# Altium footprint library Inductors-transformers.PcbLib: 104 footprints (part 7 of 7)
Each footprint in its own frame and in the unit in brackets; x right, y up, seen from the top. Pads: shape width x height; smd on the part's side, far side on the other; paste and mask are expansions set on the pad; w line width, h text height; cw(c..) or ccw(c..) is an arc to the next point about the centre after c.
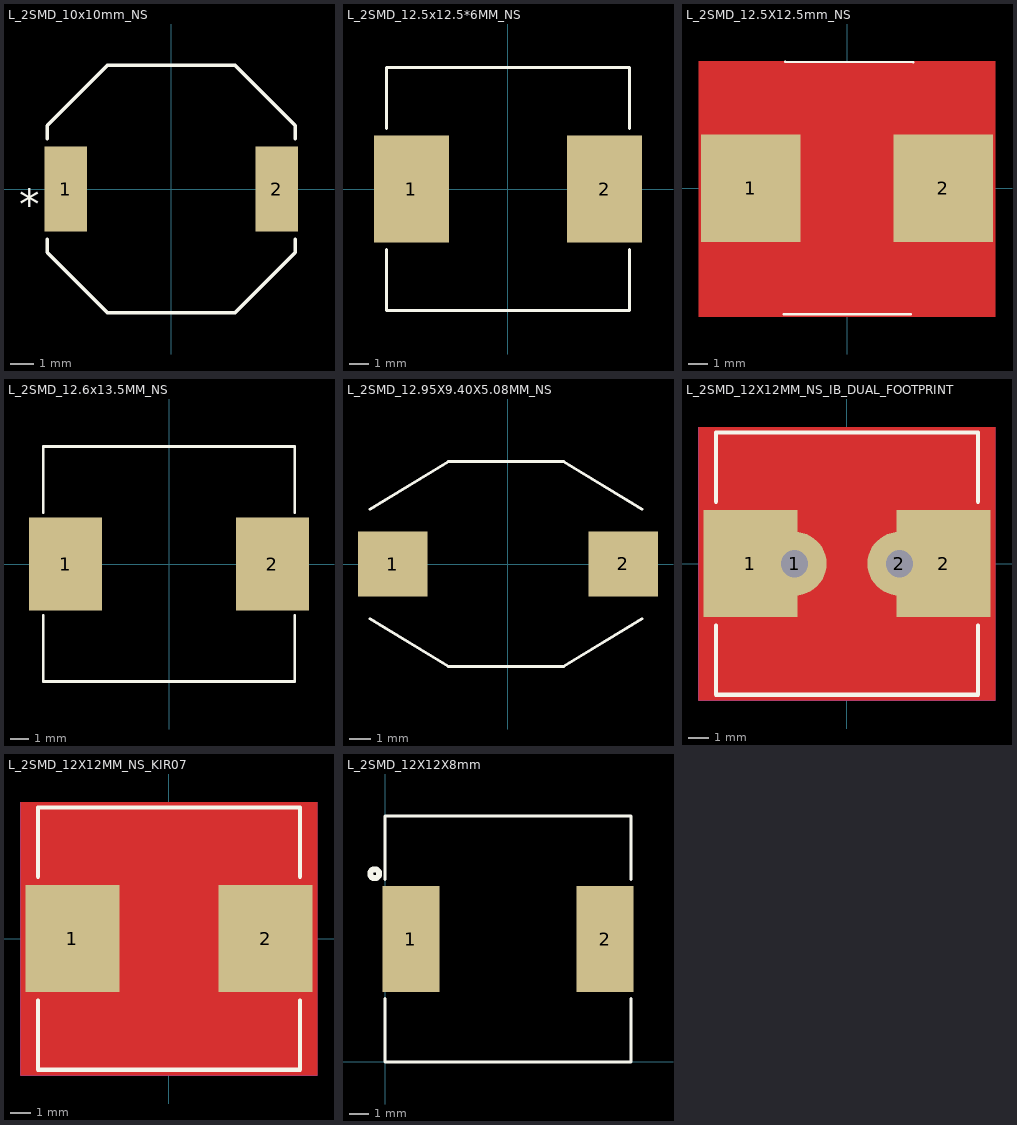
[diagram p6: the footprints below, top view; thin cyan lines are the x and y axes]

## L_2SMD_10x10mm_NS [mil] "NonStandard / 20230426/ A-F. Romo"
pads (2):
  rect 71x142 smd: 1(-177,0) 2(177,0)
Top Overlay:
  lines w6: -208,-84.1 -208,-106.5 -106.5,-208 106.5,-208 208,-106.5 208,-84.1 ; -208,84.1 -208,106.5 -106.5,208 106.5,208 208,106.5 208,84.1
  text "*" at -255.5,-50 h50
3D body "sru1048.stp": height 188.98, standoff 0, extent -196.84,-196.84 196.86,196.86

## L_2SMD_12.5x12.5*6MM_NS [mm] "/20220425/V-A.Patino"
pads (2):
  rect 3.85x5.5 smd: 1(-4.975,0) 2(4.975,0)
Top Overlay:
  lines w0.152: -6.25,-3.109 -6.25,-6.25 6.25,-6.25 6.25,-3.109 ; -6.25,3.109 -6.25,6.25 6.25,6.25 6.25,3.109
3D body "DR125-6R8-R.stp": height 6, standoff 0, extent -6.25,-6.25 6.25,6.25

## L_2SMD_12.5X12.5mm_NS [mm] "NonStandard/ 20190226 / C-A.Serna.A"
height 8
pads (2):
  rect 5x5.4 smd: 1(-4.85,0) 2(4.85,0)
Top Layer:
  pour cut-out: -7.46,6.378 7.453,6.378 7.453,-6.468 -7.46,-6.468
Top Overlay:
  lines w0.127: -3.176,-6.358 3.196,-6.341 ; -3.108,6.363 3.332,6.346
3D body "IND_BOURNS_SRR1280.stp": height 8.1, standoff 0.1, extent -6.37,-6.429 6.432,6.377

## L_2SMD_12.6x13.5MM_NS [mm] "/20220422/V-A.Patino"
pads (2):
  rect 3.9x5 smd: 1(-5.55,0) 2(5.55,0)
Top Overlay:
  lines w0.152: -6.75,-2.757 -6.75,-6.3 6.75,-6.3 6.75,-2.757 ; -6.75,2.757 -6.75,6.3 6.75,6.3 6.75,2.757
3D body "SRP1265C-330M.stp": height 6.5, standoff 0, extent -6.75,-6.3 6.75,6.3

## L_2SMD_12.95X9.40X5.08MM_NS [mm] "20230220/ N-A.Potosi"
pads (2):
  rect 3.2x3 smd: 1(-5.285,0) 2(5.285,0)
Top Overlay:
  lines w0.127: -6.335,-2.509 -2.738,-4.699 2.554,-4.699 6.151,-2.509 ; -6.335,2.509 -2.738,4.699 2.554,4.699 6.151,2.509
3D body "b82476_a1.step": height 4.81, standoff 0.01, extent -6.342,-4.646 6.158,4.654

## L_2SMD_12X12MM_NS_IB_DUAL_FOOTPRINT [mm] "NonStandard/ 20200310/ V-A.Patino"
height 8
pads (4):
  rect 4.5x5.1 smd: 1(-4.6,0) 2(4.6,0)
  round 3.048 hole 1.3: 1(-2.5,0) 2(2.5,0)
Top Layer:
  pour cut-out: -7.075,6.5 7.075,6.5 7.075,-6.5 -7.075,-6.53
Top Overlay:
  lines w0.2: -6.25,-2.95 -6.25,-6.25 6.25,-6.25 6.25,-2.95 ; -6.25,2.95 -6.25,6.25 6.25,6.25 6.25,2.95
Mechanical 1:
  lines w0.1: -6.25,-6.25 6.25,-6.25 6.25,6.25 -6.25,6.25 -6.25,-6.25
Mechanical 15:
  lines w0.05: -7.075,-6.5 -7.075,6.5 7.075,6.5 7.075,-6.5 -7.075,-6.5
  lines w0.1: -0.5,0 0.5,0 ; 0,-0.5 0,0.5
3D body: height 8, standoff 0, extent -6.25,-6.25 6.25,6.25

## L_2SMD_12X12MM_NS_KIR07 [mm] "NonStandard/ 20191014/ C-A.Serna.A"
height 8
pads (2):
  rect 4.5x5.1 smd: 1(-4.6,0) 2(4.6,0)
Top Layer:
  pour cut-out: -7.075,6.5 7.075,6.5 7.075,-6.5 -7.075,-6.53
Top Overlay:
  lines w0.2: -6.25,-2.95 -6.25,-6.25 6.25,-6.25 6.25,-2.95 ; -6.25,2.95 -6.25,6.25 6.25,6.25 6.25,2.95
Mechanical 1:
  lines w0.1: -6.25,-6.25 6.25,-6.25 6.25,6.25 -6.25,6.25 -6.25,-6.25
Mechanical 15:
  lines w0.05: -7.075,-6.5 -7.075,6.5 7.075,6.5 7.075,-6.5 -7.075,-6.5
  lines w0.1: -0.5,0 0.5,0 ; 0,-0.5 0,0.5
3D body: height 8, standoff 0, extent -6.25,-6.25 6.25,6.25

## L_2SMD_12X12X8mm [mil] "/ 20231112 / J.Jaramillo"
pads (2):
  rect 114x213 smd paste+0 mask+0: 1(52,247) 2(442,247)
Top Overlay:
  circle w11.81: c-20.83,378.17 r9
  lines w6: 0,127.4 0,0 494,0 494,127.4 ; 0,366.6 0,494 494,494 494,366.6
3D body "LDNP-470MC--3DModel-STEP-56544.STEP": height 433.07, standoff 118.11, extent 9.55,10.07 481.99,482.51